# EAGLE library part SRDA05 (library Bauteile)
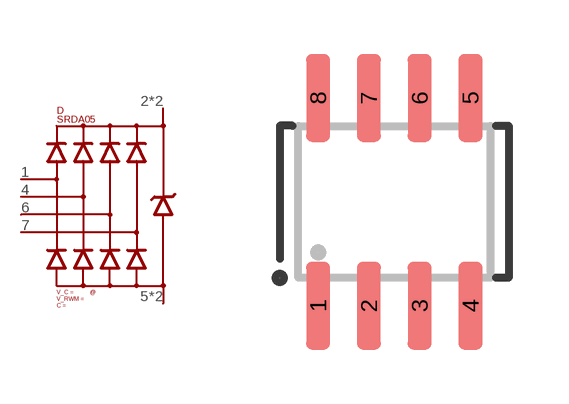
[diagram p105: symbol with the pads of SO8; footprint SO8]

Designator prefix D

## SRDA05 (C: 8pF; I_C: 25A; V_C: 21V; V_RWM: 5V)  [SO8]
1  I/O_1
2  VCC
3  VCC
4  I/O_2
5  GND
6  I/O_3
7  I/O_4
8  GND

## Footprint SO8 (pad centres in mm)
smd 0.6 x 2.2: 1 -1.905,-2.6; 2 -0.635,-2.6; 3 0.635,-2.6; 4 1.905,-2.6; 5 1.905,2.6; 6 0.635,2.6; 7 -0.635,2.6; 8 -1.905,2.6